# Altium schematic symbol library WifiCar.SCHLIB: 6 symbols
Pins are listed as number, name and electrical type; pins without a type are passive.

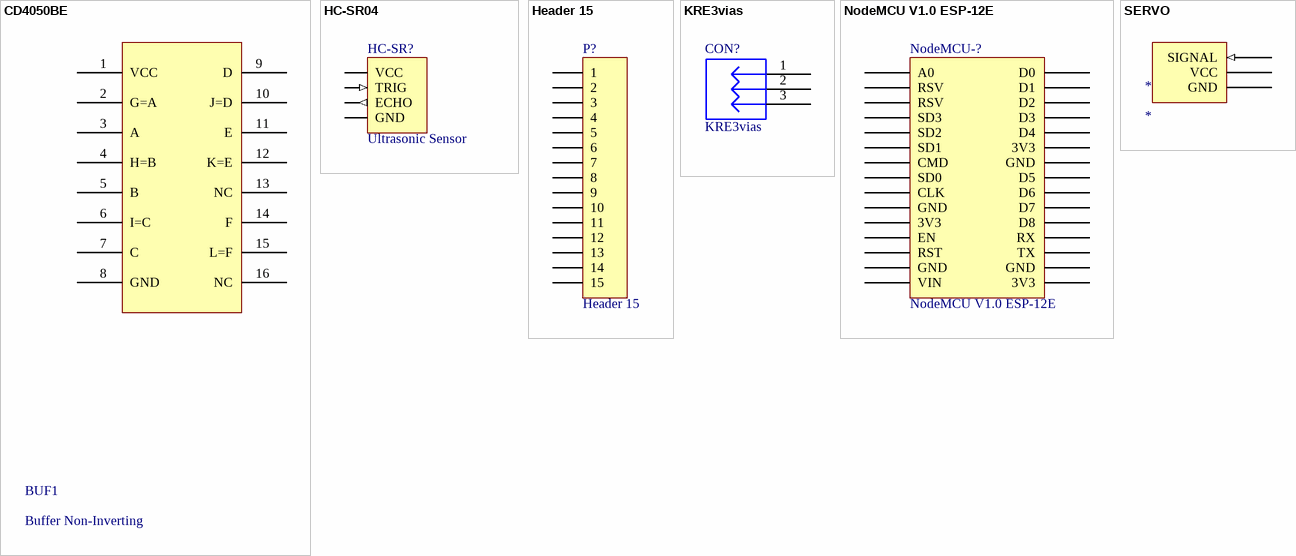
[diagram p0: symbols CD4050BE to SERVO]

## CD4050BE
designator BUF1, comment Buffer Non-Inverting
footprint CD4050BE
pins: 1 VCC, 2 G=A, 3 A, 4 H=B, 5 B, 6 I=C, 7 C, 8 GND, 9 D, 10 J=D, 11 E, 12 K=E, 13 NC, 14 F, 15 L=F, 16 NC

## HC-SR04
designator HC-SR?, comment Ultrasonic Sensor
footprint HC-SR4
pins: ECHO (out), GND (power), TRIG (in), VCC (power)

## Header 15
designator P?
Header, 15-Pin; LatestRevisionDate: 17-Jul-2002; LatestRevisionNote: Re-released for DXP Platform.; Publisher: Altium Limited
footprint HDR1X15 (Connector; Header; 15 Position)
signal-integrity model Connector
pins: 1, 2, 3, 4, 5, 6, 7, 8, 9, 10, 11, 12, 13, 14, 15

## KRE3vias
designator CON?
Conector 3 vias; Descrição: Conector KRE 3 vias 180º; Encapsulamento: PTH - 180º; Modelo: 3 vias - 180º; Marca: *; Observação: *
footprint KRE3-3vias
pins: 1, 2, 3

## NodeMCU V1.0 ESP-12E
designator NodeMCU-?
NodeMCU V1.0 ESP8266 (ESP-12E)
footprint NodeMCU V1.0 ESP-12E
footprint NodeMCU (+ LoLin)
footprint NodeMCU
pins: 3V3_1 3V3, 3V3_2 3V3, 3V3_3 3V3, A0, CLK, CMD, D0, D1, D2, D3, D4, D5, D6, D7, D8, EN, GND_1 GND, GND_2 GND, GND_3 GND, GND_3 GND, RST, RSV_1 RSV, RSV_2 RSV, RX, SD0, SD1, SD2, SD3, TX, VIN

## SERVO
designator *
footprint SERVO
pins: GND (power), SIGNAL (in), VCC (power)